# Altium footprint library TERM_3.50MM_4x1_0.PcbLib: 1 footprints
Each footprint in its own frame and in the unit in brackets; x right, y up, seen from the top. Pads: shape width x height; smd on the part's side, far side on the other; paste and mask are expansions set on the pad; w line width, h text height; cw(c..) or ccw(c..) is an arc to the next point about the centre after c.
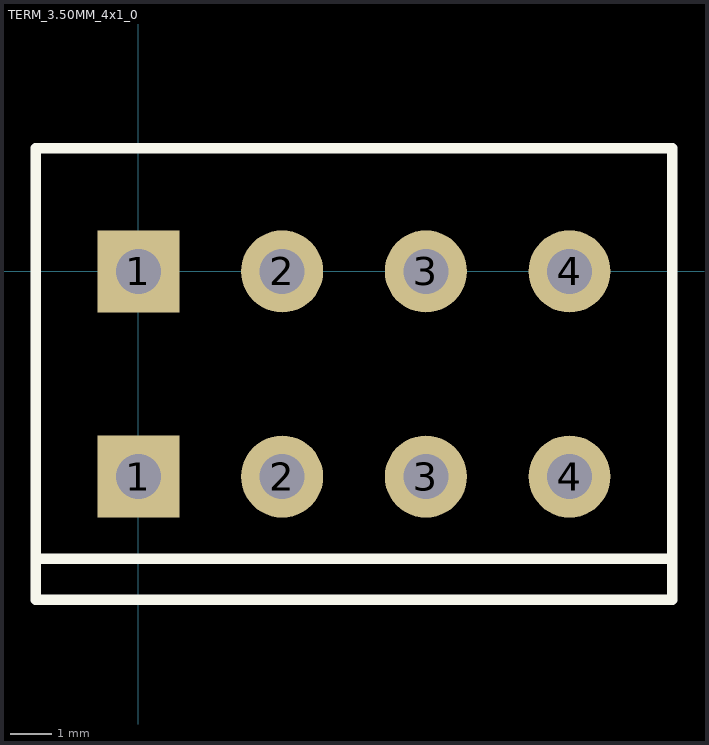
[diagram p0: the footprint, top view; thin cyan lines are the x and y axes]

## TERM_3.50MM_4x1_0 [mm]
pads (8):
  rect 2x2 hole 1.1: 1(0,-5) 1(0,0)
  round 2 hole 1.1: 2(3.5,-5) 2(3.5,0) 3(7,-5) 3(7,0) 4(10.5,-5) 4(10.5,0)
Top Overlay:
  lines w0.254: -2.5,-7 13,-7 ; -2.5,-8 -2.5,3 13,3 13,-8 0,-8 -2.5,-8
3D body "1861959.SLDPRT": height 8.98, standoff -2.6, extent -2.5,-8 13,3